# Altium schematic symbol library 691 701 340 0xx B.SchLib: 11 symbols
Pins are listed as number, name and electrical type; pins without a type are passive.

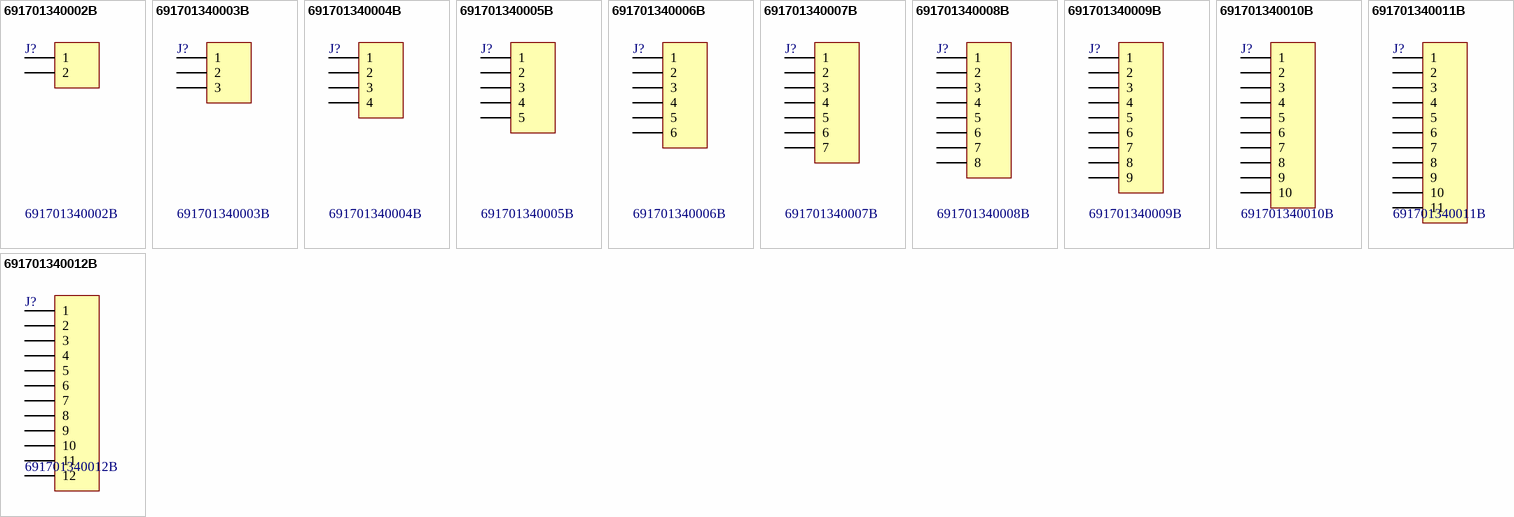
[diagram p0: symbols 691701340002B to 691701340012B]

## 691701340002B
designator J?
WR-TBL Terminal block - serie 7013 B - 3.81 mm; Manufacturer: Würth Elektronik eiSos GmbH; ComponentLink1 Description: Manufacturer; ComponentLink2 Description: Datasheet; NoPins: 02; Created Date: 24 December 2013; partNo: 691701340002B; ComponentLink1URL: http://www.we-online.com; ComponentLink2URL: http://katalog.we-online.de/em/datasheet/6917013400xxB.pdf; Created by: Karrer Zheng
footprint 691701340002B (THR - 3,81mm - PCB Horizontal Close - 02p)
pins: 1, 2

## 691701340003B
designator J?
WR-TBL Terminal block - serie 7013 B - 3.81 mm; Manufacturer: Würth Elektronik eiSos GmbH; ComponentLink1 Description: Manufacturer; ComponentLink2 Description: Datasheet; NoPins: 03; Created Date: 24 December 2013; partNo: 691701340003B; ComponentLink1URL: http://www.we-online.com; ComponentLink2URL: http://katalog.we-online.de/em/datasheet/6917013400xxB.pdf; Created by: Karrer Zheng
footprint 691701340003B (THR - 3,81mm - PCB Horizontal Close - 03p)
pins: 1, 2, 3

## 691701340004B
designator J?
WR-TBL Terminal block - serie 7013 B - 3.81 mm; Manufacturer: Würth Elektronik eiSos GmbH; ComponentLink1 Description: Manufacturer; ComponentLink2 Description: Datasheet; NoPins: 04; Created Date: 24 December 2013; partNo: 691701340004B; ComponentLink1URL: http://www.we-online.com; ComponentLink2URL: http://katalog.we-online.de/em/datasheet/6917013400xxB.pdf; Created by: Karrer Zheng
footprint 691701340004B (THR - 3,81mm - PCB Horizontal Close - 04p)
pins: 1, 2, 3, 4

## 691701340005B
designator J?
WR-TBL Terminal block - serie 7013 B - 3.81 mm; Manufacturer: Würth Elektronik eiSos GmbH; ComponentLink1 Description: Manufacturer; ComponentLink2 Description: Datasheet; NoPins: 05; Created Date: 24 December 2013; partNo: 691701340005B; ComponentLink1URL: http://www.we-online.com; ComponentLink2URL: http://katalog.we-online.de/em/datasheet/6917013400xxB.pdf; Created by: Karrer Zheng
footprint 691701340005B (THR - 3,81mm - PCB Horizontal Close - 05p)
pins: 1, 2, 3, 4, 5

## 691701340006B
designator J?
WR-TBL Terminal block - serie 7013 B - 3.81 mm; Manufacturer: Würth Elektronik eiSos GmbH; ComponentLink1 Description: Manufacturer; ComponentLink2 Description: Datasheet; NoPins: 06; Created Date: 24 December 2013; partNo: 691701340006B; ComponentLink1URL: http://www.we-online.com; ComponentLink2URL: http://katalog.we-online.de/em/datasheet/6917013400xxB.pdf; Created by: Karrer Zheng
footprint 691701340006B (THR - 3,81mm - PCB Horizontal Close - 06p)
pins: 1, 2, 3, 4, 5, 6

## 691701340007B
designator J?
WR-TBL Terminal block - serie 7013 B - 3.81 mm; Manufacturer: Würth Elektronik eiSos GmbH; ComponentLink1 Description: Manufacturer; ComponentLink2 Description: Datasheet; NoPins: 07; Created Date: 24 December 2013; partNo: 691701340007B; ComponentLink1URL: http://www.we-online.com; ComponentLink2URL: http://katalog.we-online.de/em/datasheet/6917013400xxB.pdf; Created by: Karrer Zheng
footprint 691701340007B (THR - 3,81mm - PCB Horizontal Close - 07p)
pins: 1, 2, 3, 4, 5, 6, 7

## 691701340008B
designator J?
WR-TBL Terminal block - serie 7013 B - 3.81 mm; Manufacturer: Würth Elektronik eiSos GmbH; ComponentLink1 Description: Manufacturer; ComponentLink2 Description: Datasheet; NoPins: 08; Created Date: 24 December 2013; partNo: 691701340008B; ComponentLink1URL: http://www.we-online.com; ComponentLink2URL: http://katalog.we-online.de/em/datasheet/6917013400xxB.pdf; Created by: Karrer Zheng
footprint 691701340008B (THR - 3,81mm - PCB Horizontal Close - 08p)
pins: 1, 2, 3, 4, 5, 6, 7, 8

## 691701340009B
designator J?
WR-TBL Terminal block - serie 7013 B - 3.81 mm; Manufacturer: Würth Elektronik eiSos GmbH; ComponentLink1 Description: Manufacturer; ComponentLink2 Description: Datasheet; NoPins: 09; Created Date: 24 December 2013; partNo: 691701340009B; ComponentLink1URL: http://www.we-online.com; ComponentLink2URL: http://katalog.we-online.de/em/datasheet/6917013400xxB.pdf; Created by: Karrer Zheng
footprint 691701340009B (THR - 3,81mm - PCB Horizontal Close - 09p)
pins: 1, 2, 3, 4, 5, 6, 7, 8, 9

## 691701340010B
designator J?
WR-TBL Terminal block - serie 7013 B - 3.81 mm; Manufacturer: Würth Elektronik eiSos GmbH; ComponentLink1 Description: Manufacturer; ComponentLink2 Description: Datasheet; NoPins: 10; Created Date: 24 December 2013; partNo: 691701340010B; ComponentLink1URL: http://www.we-online.com; ComponentLink2URL: http://katalog.we-online.de/em/datasheet/6917013400xxB.pdf; Created by: Karrer Zheng
footprint 691701340010B (THR - 3,81mm - PCB Horizontal Close - 10p)
pins: 1, 2, 3, 4, 5, 6, 7, 8, 9, 10

## 691701340011B
designator J?
WR-TBL Terminal block - serie 7013 B - 3.81 mm; Manufacturer: Würth Elektronik eiSos GmbH; ComponentLink1 Description: Manufacturer; ComponentLink2 Description: Datasheet; NoPins: 11; Created Date: 24 December 2013; partNo: 691701340011B; ComponentLink1URL: http://www.we-online.com; ComponentLink2URL: http://katalog.we-online.de/em/datasheet/6917013400xxB.pdf; Created by: Karrer Zheng
footprint 691701340011B (THR - 3,81mm - PCB Horizontal Close - 11p)
pins: 1, 2, 3, 4, 5, 6, 7, 8, 9, 10, 11

## 691701340012B
designator J?
WR-TBL Terminal block - serie 7013 B - 3.81 mm; Manufacturer: Würth Elektronik eiSos GmbH; ComponentLink1 Description: Manufacturer; ComponentLink2 Description: Datasheet; NoPins: 12; Created Date: 24 December 2013; partNo: 691701340012B; ComponentLink1URL: http://www.we-online.com; ComponentLink2URL: http://katalog.we-online.de/em/datasheet/6917013400xxB.pdf; Created by: Karrer Zheng
footprint 691701340012B (THR - 3,81mm - PCB Horizontal Close - 12p)
pins: 1, 2, 3, 4, 5, 6, 7, 8, 9, 10, 11, 12